# EAGLE library part 23LCV1024 (library ganzlib)
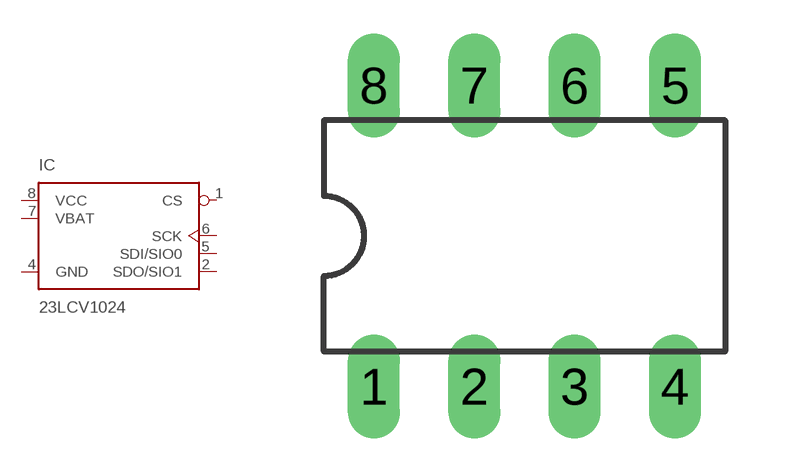
[diagram p1: symbol with the pads of DIP-8; footprint DIP-8]

Designator prefix IC

## 23LCV1024  [DIP-8]
1  CS  in
2  SDO/SIO1
4  GND  pwr
5  SDI/SIO0
6  SCK  in
7  VBAT  pwr
8  VCC  pwr

## Footprint DIP-8 (pad centres in mm)
drill 0.813 pad 1.27 long: 1 -3.81,-3.81; 2 -1.27,-3.81; 3 1.27,-3.81; 4 3.81,-3.81; 5 3.81,3.81; 6 1.27,3.81; 7 -1.27,3.81; 8 -3.81,3.81